# EAGLE library part 691318500008 (library Wurth_Terminal_Blocks_Connectors_rev15d)
WR-TBL Serie 3185 - 5.08 mm Close Vertical PCB Header with Flanges , 8 Pins=>Code : WR-TBL_3185_691318500008 <http://katalog.we-online.de/media/images/eican/WR-TBL_3185_691318500003_pf2.jpg> Details see: http://katalog.we-online.de/en/em/691_318_500_0xx Created 2014-06-23, Karrer Zheng 2014 (C) Würth Elektronik
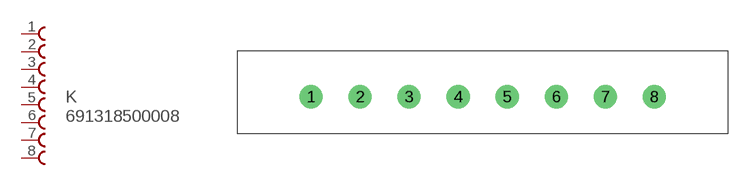
[diagram p110: symbol with the pads of 691318500008; footprint 691318500008]

Designator prefix K

## 691318500008  [691318500008]
1  1  pas
2  2  pas
3  3  pas
4  4  pas
5  5  pas
6  6  pas
7  7  pas
8  8  pas

## Footprint 691318500008 (pad centres in mm)
WR-TBL Serie 3185 - 5.08 mm Close Vertical PCB Header with Flanges , 8 Pins
drill 1.6: 1 -10.16,0; 2 -5.08,0; 3 0,0; 4 5.08,0; 5 10.16,0; 6 15.24,0; 7 20.32,0; 8 25.4,0